# Altium schematic symbol library TPS62827ADMQR.SchLib: 1 symbol
Pins are listed as number, name and electrical type; pins without a type are passive.

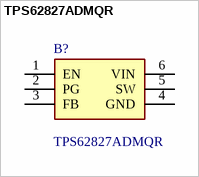
[diagram p0: symbol TPS62827ADMQR]

## TPS62827ADMQR
designator B?
Step Down DC DC Converter; Manufacturer_Name: Texas Instruments; Geometry.Height: 1mm; Mouser Part Number: 595-TPS62827ADMQR; Mouser Price/Stock: https://www.mouser.co.uk/ProductDetail/Texas-Instruments/TPS62827ADMQR?qs=DRkmTr78QATCWGi3%2FWmmPQ%3D%3D; Manufacturer_Part_Number: TPS62827ADMQR; Datasheet Link: *
footprint TPS62827ADMQR
pins: 1 EN, 2 PG, 3 FB, 4 GND, 5 SW, 6 VIN